# EAGLE library part MOUDLE-BLUETOOTH-CC2540F256RHAR(VQFN40) (library Seeed-OPL-Moudle)
317070005
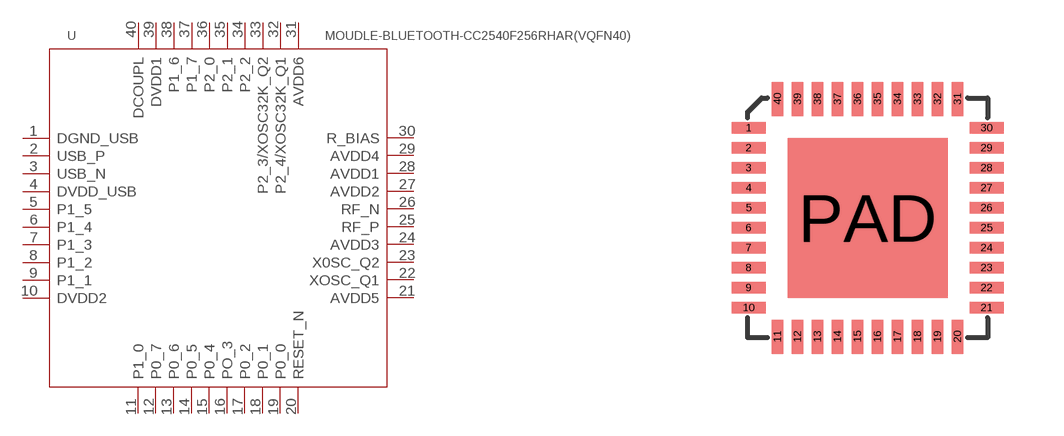
[diagram p12: symbol with the pads of VQFN40G-0.5-6X6MM; footprint VQFN40G-0.5-6X6MM]

Designator prefix U

## MOUDLE-BLUETOOTH-CC2540F256RHAR(VQFN40)  [VQFN40G-0.5-6X6MM]
1  DGND_USB
2  USB_P
3  USB_N
4  DVDD_USB
5  P1_5
6  P1_4
7  P1_3
8  P1_2
9  P1_1
10  DVDD2
11  P1_0
12  P0_7
13  P0_6
14  P0_5
15  P0_4
16  PO_3
17  P0_2
18  P0_1
19  P0_0
20  RESET_N
21  AVDD5
22  XOSC_Q1
23  X0SC_Q2
24  AVDD3
25  RF_P
26  RF_N
27  AVDD2
28  AVDD1
29  AVDD4
30  R_BIAS
31  AVDD6
32  P2_4/XOSC32K_Q1
33  P2_3/XOSC32K_Q2
34  P2_2
35  P2_1
36  P2_0
37  P1_7
38  P1_6
39  DVDD1
40  DCOUPL

## Footprint VQFN40G-0.5-6X6MM (pad centres in mm)
smd 0.85 x 0.28: 1 -2.975,2.25; 2 -2.975,1.75; 3 -2.975,1.25; 4 -2.975,0.75; 5 -2.975,0.25; 6 -2.975,-0.25; 7 -2.975,-0.75; 8 -2.975,-1.25; 9 -2.975,-1.75; 10 -2.975,-2.25; 21 2.975,-2.25; 22 2.975,-1.75; 23 2.975,-1.25; 24 2.975,-0.75; 25 2.975,-0.25; 26 2.975,0.25; 27 2.975,0.75; 28 2.975,1.25; 29 2.975,1.75; 30 2.975,2.25
smd 0.28 x 0.85: 11 -2.25,-2.975; 12 -1.75,-2.975; 13 -1.25,-2.975; 14 -0.75,-2.975; 15 -0.25,-2.975; 16 0.25,-2.975; 17 0.75,-2.975; 18 1.25,-2.975; 19 1.75,-2.975; 20 2.25,-2.975; 31 2.25,2.975; 32 1.75,2.975; 33 1.25,2.975; 34 0.75,2.975; 35 0.25,2.975; 36 -0.25,2.975; 37 -0.75,2.975; 38 -1.25,2.975; 39 -1.75,2.975; 40 -2.25,2.975
smd 4 x 4: PAD 0,0